# Altium schematic symbol library test.SchLib: 309 symbols (part 2 of 9)
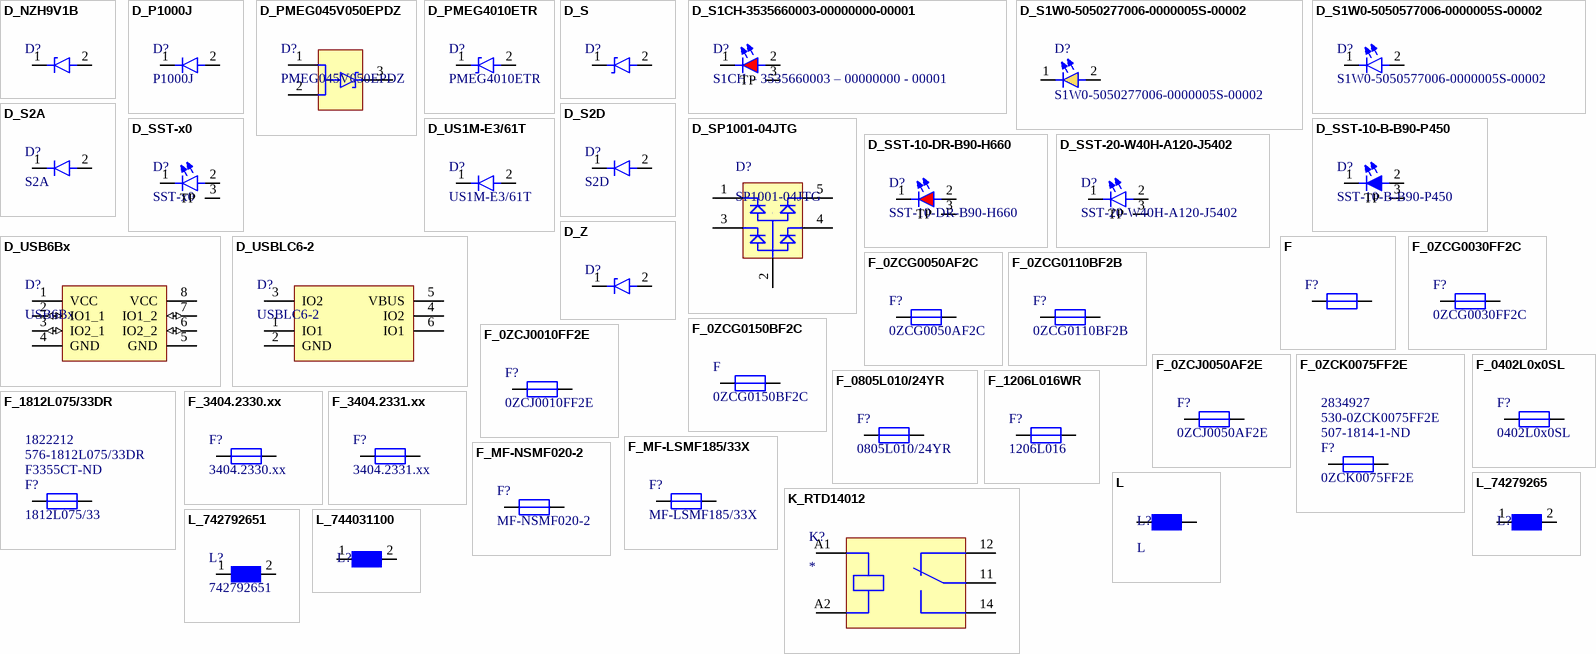
[diagram p9: symbols D_NZH9V1B to L_744031100]

## D_SP1001-04JTG
designator D?, comment SP1001-04JTG
TVS DIODE 5.5V 13V SC70-5; Manufacturer: Littelfuse; Direction: Unidirectional; Capacitance: 8pF; Max Surge Current: 2A; Number of Channels: 4; Min Breakdown Voltage: 7V; Power Line Protection: No; Leakage Current: 500nA; Supplier 1: Digi-Key; Supplier Part Number 1: F2895DKR-ND; Manufacturer Part Number: SP1001-04JTG; Stock 1: 12164; Pricing 1: 1 = 0.62000, 10 = 0.51900, 25 = 0.45440, 100 = 0.38930, 250 = 0.33744, 500 = 0.28552, 1000 = 0.22063 (USD); RoHS: Yes; Mount: Surface Mount; Case/Package: SC; Number of Pins: 5; Min Operating Temperature: -40°C; Max Operating Temperature: 85°C; Operating Supply Voltage: 5.5V; Packaging: Tape and Reel; Package Quantity: 3000; Polarity: Unidirectional; Breakdown Voltage: 5.5V; Clamping Voltage: 13V; Termination: SMD/SMT; Number of Unidirectional Channels: 4; Reverse Standoff Voltage: 5.5V; Working Voltage: 5.5V; Peak Pulse Current: 2A; Composition: Zener; Length: 2.25mm; Depth: 1.35mm; Radiation Hardening: No; REACH SVHC: Unknown; Lead Free: Lead Free; ComponentLink1URL: https://datasheet.ciiva.com/4510/littelfuse-spa-sp1001-0x-63620-4510770.pdf?src-supplier=Mouser; ComponentLink1Description: https://datasheet.ciiva.com/4510/littelfuse-spa-sp1001-0x-63620-4510770.pdf?src-supplier=Mouser; ComponentLink2URL: https://datasheet.ciiva.com/331/littelfuse-tvs-diode-array-sp1001-datasheet-pdf-331764.pdf?src-supplier=Digi-Key; ComponentLink2Description: https://datasheet.ciiva.com/331/littelfuse-tvs-diode-array-sp1001-datasheet-pdf-331764.pdf?src-supplier=Digi-Key; ComponentLink3URL: https://datasheet.ciiva.com/331/littelfuse-tvs-diode-array-sp1001-datasheet-pdf-331765.pdf?src-supplier=Digi-Key; ComponentLink3Description: https://datasheet.ciiva.com/331/littelfuse-tvs-diode-array-sp1001-datasheet-pdf-331765.pdf?src-supplier=Digi-Key; ComponentLink4URL: https://datasheet.ciiva.com/331/littelfuse-tvs-diode-array-sp1001-datasheet-pdf-331766.pdf?src-supplier=Digi-Key; ComponentLink4Description: https://datasheet.ciiva.com/331/littelfuse-tvs-diode-array-sp1001-datasheet-pdf-331766.pdf?src-supplier=Digi-Key; ComponentLink5URL: https://datasheet.ciiva.com/1268/littelfuse-spa-sp1001-0x-1268334.pdf?src-supplier=Element14; ComponentLink5Description: https://datasheet.ciiva.com/1268/littelfuse-spa-sp1001-0x-1268334.pdf?src-supplier=Element14
footprint SOT353-1
pins: 1, 2, 3, 4, 5

## D_SST-10-B-B90-P450
designator D?, comment SST-10-B-B90-P450
Led SST10 Blue 450NM SMD; Manufacturer: Luminus Devices; Forward Voltage: 3V; Test Current: 350mA; Max Current Rating: 1.5A; Test Temperature: 25°C; Viewing Angle: 90°; Thermal Resistance of Package: 5.3°C/W; Supplier 1: Digi-Key; Supplier Part Number 1: 1214-1433-1-ND; Manufacturer Part Number: SST-10-B-B90-P450; RoHS: Yes; Stock: 942; Pricing 1: 1=1.84000, 10=1.49500, 100=0.92000 (USD); Mount: Surface Mount; Case/Package: SMD/SMT; Color: Blue; Packaging: Tape and Reel; Wavelength: 450nm; ComponentLink1URL: http://www.luminus.com/products/Luminus_SST10-B_Datasheet.pdf?src-supplier=Digi-Key; ComponentLink1Description: http://www.luminus.com/products/Luminus_SST10-B_Datasheet.pdf?src-supplier=Digi-Key
footprint SST-x0-B (SST-x0 LED Blue)
footprint SST-x0 (SST-x0 LED general)
pins: 1, 2, 3 TP

## D_SST-10-DR-B90-H660
designator D?, comment SST-10-DR-B90-H660
High Power LED Deep Red 660nm 1500mA 3-Pin Surface Mount T/R; Manufacturer: Luminus Devices; Forward Voltage: 2.05V; Test Current: 350mA; Max Current Rating: 1.5A; Test Temperature: 25°C; Viewing Angle: 90°; Thermal Resistance of Package: 5.3°C/W; Supplier 1: Digi-Key; Supplier Part Number 1: 1214-1437-1-ND; Manufacturer Part Number: SST-10-DR-B90-H660; RoHS: Yes; Stock: 782; Pricing 1: 1=1.93000, 10=1.57000, 100=0.96600 (USD); Mount: Surface Mount; Case/Package: SMD/SMT; Color: Red; Packaging: Tape and Reel; Wavelength: 660nm; ComponentLink1URL: http://www.luminus.com/products/Luminus_SST10-DR_Datasheet.pdf?src-supplier=Digi-Key; ComponentLink1Description: http://www.luminus.com/products/Luminus_SST10-DR_Datasheet.pdf?src-supplier=Digi-Key
footprint SST-x0-DR (SST-x0 LED DarkRed)
footprint SST-x0 (SST-x0 LED general)
pins: 1, 2, 3 TP

## D_SST-20-W40H-A120-J5402
designator D?, comment SST-20-W40H-A120-J5402
High Power LEDs - White High CRI White LED 4000K 95 CRI; Manufacturer 1: Luminus Devices; Manufacturer Part Number 1: SST-20-W40H-A120-J5402; ComponentLink1URL: https://www.mouser.ch/datasheet/2/245/Luminus_SST-20-WxH_Datasheet-1499224.pdf; ComponentLink1Description: http://www.luminus.com/products/Luminus_SST10-DR_Datasheet.pdf?src-supplier=Digi-Key
footprint SST-x0 (SST-x0 LED general)
pins: 1, 2, 3 TP

## D_SST-x0
designator D?, comment SST-x0
High Power LEDs Luminus SST-x0 series
footprint SST-x0 (SST-x0 LED general)
pins: 1, 2, 3 TP

## D_US1M-E3/61T
designator D?, comment US1M-E3/61T
VISHAY - US1M-E3/61T - Dioda szybka / ultraszybka, 1 kV, 1 A, Pojedyncze, 1.7 V, 75 ns, 30 A; Manufacturer: Vishay Semiconductors; Forward Voltage: 1.7V; Forward Current: 1A; Max Reverse Current: 10uA; Reverse Recovery Time: 75ns; Max Repetitive Reverse Voltage (Vrrm): 1kV; Peak Non-Repetitive Surge Current: 30A; Element Configuration: Single; Polarity: Standard; Capacitance: 10pF; Manufacturer Part Number: US1M-E3/61T; RoHS: Yes; Category: Rectifier Diodes; Stock 1: 555533; Pricing 1: 1=0.46000, 50=0.22500, 100=0.19700, 250=0.16600, 500=0.14600 (USD); Mount: Surface Mount; Case/Package: SMA; Number of Pins: 2; Min Operating Temperature: -55°C; Max Operating Temperature: 150°C; Packaging: Tape and Reel; Max Surge Current: 30A; Package Quantity: 1; Recovery Time: 75ns; Average Rectified Current: 1A; Max Forward Surge Current (Ifsm): 30A; Voltage Rating (DC): 1kV; Current Rating: 1A; Output Current: 1A; Current: 1A; Voltage: 1kV; Max Reverse Voltage (DC): 1kV; Reverse Voltage: 1kV; Series: -; Termination: SMD/SMT; Reverse Recovery Time-Max: 75ns; Length: 4.5mm; Width: 4.5mm; Height: 2.09mm; Lead Free: Lead Free; REACH SVHC: Unknown; RoHS Compliant: Yes; ComponentLink1URL: https://datasheet.ciiva.com/26295/1825026-26295189.pdf?src-supplier=Element14; ComponentLink1Description: https://datasheet.ciiva.com/26295/1825026-26295189.pdf?src-supplier=Element14; ComponentLink2URL: https://datasheet.ciiva.com/46393/1849435-46393787.pdf?src-supplier=Element14; ComponentLink2Description: https://datasheet.ciiva.com/46393/1849435-46393787.pdf?src-supplier=Element14; ComponentLink3URL: https://datasheet.ciiva.com/46393/1849435-46393789.pdf?src-supplier=Element14; ComponentLink3Description: https://datasheet.ciiva.com/46393/1849435-46393789.pdf?src-supplier=Element14; Supplier 1: Farnell; Supplier 2: Mouser; Supplier 3: Digi-Key; Supplier Part Number 1: 9551840; Supplier Part Number 2: 625-US1M-E3; Supplier Part Number 3: US1M-E3/61TGICT-ND
footprint DO-214AC
footprint DO-214AC (SMA) US1 (DO-214AC)
pins: 1, 2

## D_USB6Bx
designator D?, comment USB6Bx
TVS DIODE 5.25VWM 8SOIC; Manufacturer: STMicroelectronics; Manufacturer Part Number: USB6B1RL; Case/Package: SOIC; ComponentLink1URL: https://datasheet.ciiva.com/26787/usb6b1rl-26787915.pdf; ComponentLink1Description: https://datasheet.ciiva.com/26787/usb6b1rl-26787915.pdf; ComponentLink2URL: https://datasheet.ciiva.com/26912/getdatasheetpartid-202409-26912476.pdf; ComponentLink2Description: https://datasheet.ciiva.com/26912/getdatasheetpartid-202409-26912476.pdf; ComponentLink3URL: https://datasheet.ciiva.com/4508/cd00001361-4508455.pdf; ComponentLink3Description: https://datasheet.ciiva.com/4508/cd00001361-4508455.pdf; Supplier 1: Digi-Key; Supplier Part Number 1: 497-3281-1-ND
footprint SO8 (SOIC, 8-Leads, Body 4.90x3.90mm, Pitch 1.27mm, IPC Medium Density)
pins: 1 VCC (power), 2 IO1_1 (io), 3 IO2_1 (io), 4 GND (power), 5 GND (power), 6 IO2_2 (io), 7 IO1_2 (io), 8 VCC (power)

## D_USBLC6-2
designator D?, comment USBLC6-2
ESD PROTECTION ARRAY, 17V, SOT-666-6; Diode Type:Low Capacitance, ESD Protection; Clamping Voltage Vc Max:17V; Operating Voltage:1.1V; Diode Case Style:SOT-666; No. of Pins:6; Packaging:Tape & Reel; MSL:-; SVHC:No SVHC ( ;RoHS Compliant: Yes; Manufacturer: STMicroelectronics; Manufacturer Part Number: USBLC6-2P6; Direction: Unidirectional,Bidirectional; Operating Supply Voltage: 5V; Number of Elements: 1; Capacitance: 3.5pF; Reverse Breakdown Voltage: 6V; Number of Channels: 2; Test Current: 1mA; Max Reverse Leakage Current: 150nA; Peak Pulse Current: 5A; Element Configuration: Dual; Supplier 1: Digi-Key; Supplier Part Number 1: 497-5026-1-ND; ComponentLink1URL: https://datasheet.ciiva.com/15143/getdatasheetpartid-98673-15143462.pdf; ComponentLink1Description: https://datasheet.ciiva.com/15143/getdatasheetpartid-98673-15143462.pdf; ComponentLink2URL: https://datasheet.ciiva.com/14186/usblc6-2-st-eng-tds-14186568.pdf; ComponentLink2Description: https://datasheet.ciiva.com/14186/usblc6-2-st-eng-tds-14186568.pdf; ComponentLink3URL: https://datasheet.ciiva.com/22692/1690354-22692453.pdf; ComponentLink3Description: https://datasheet.ciiva.com/22692/1690354-22692453.pdf; ComponentLink4URL: https://datasheet.ciiva.com/22685/1690354-22685832.pdf; ComponentLink4Description: https://datasheet.ciiva.com/22685/1690354-22685832.pdf; ComponentLink5URL: https://datasheet.ciiva.com/16378/cd00050750-16378714.pdf; ComponentLink5Description: https://datasheet.ciiva.com/16378/cd00050750-16378714.pdf; ComponentLink6URL: https://datasheet.ciiva.com/4508/cd00050750-4508892.pdf; ComponentLink6Description: https://datasheet.ciiva.com/4508/cd00050750-4508892.pdf; ComponentLink7URL: https://datasheet.ciiva.com/41444/001184108-da-01-en-ic-esd-protection-usblc6-2p6-sot-666-stm-41444134.pdf; ComponentLink7Description: https://datasheet.ciiva.com/41444/001184108-da-01-en-ic-esd-protection-usblc6-2p6-sot-666-stm-41444134.pdf; Case/Package: SOT-666; Supplier 2: Mouser; RoHS: Yes; Category: TVS Diodes; Stock 2: 573; Pricing 2: 1=0.68000, 10=0.59500, 50=0.59500, 100=0.45600, 1000=0.28900, 10000=0.23800 (USD); Mount: Surface Mount; Number of Pins: 6; Contact Plating: Tin,Matte; Min Operating Temperature: -40°C; Max Operating Temperature: 125°C; Package Quantity: 1; Packaging: Tape and Reel; Number of Bidirectional Channels: 2; Reverse Standoff Voltage: 5V; Min Breakdown Voltage: 6V; Clamping Voltage: 17V; Power Line Protection: Yes; Polarity: Unidirectional,Bidirectional; Breakdown Voltage: 6V; Termination: SMD/SMT; Working Voltage: 5V; ESD Protection: Yes; Leakage Current: 150nA; Max Breakdown Voltage: 6V; Series: USB; Clamping Voltage-Max: 17V; Length: 1.7mm; Width: 1.3mm; Height: 0.6mm; Depth: 1.3mm; Radiation Hardening: No; REACH SVHC: No SVHC; Lead Free: Lead Free; RoHS Compliant: Yes; ComponentLink8URL: https://datasheet.ciiva.com/15143/getdatasheetpartid-98673-15143462.pdf?src-supplier=Verical; ComponentLink8Description: https://datasheet.ciiva.com/15143/getdatasheetpartid-98673-15143462.pdf?src-supplier=Verical; ComponentLink9URL: https://datasheet.ciiva.com/14186/usblc6-2-st-eng-tds-14186568.pdf?src-supplier=Distrelec; ComponentLink9Description: https://datasheet.ciiva.com/14186/usblc6-2-st-eng-tds-14186568.pdf?src-supplier=Distrelec; ComponentLink10URL: https://datasheet.ciiva.com/4508/cd00050750-4508892.pdf?src-supplier=Mouser; ComponentLink10Description: https://datasheet.ciiva.com/4508/cd00050750-4508892.pdf?src-supplier=Mouser; ComponentLink11URL: https://datasheet.ciiva.com/22692/1690354-22692453.pdf?src-supplier=Element14; ComponentLink11Description: https://datasheet.ciiva.com/22692/1690354-22692453.pdf?src-supplier=Element14; ComponentLink12URL: https://datasheet.ciiva.com/22685/1690354-22685832.pdf?src-supplier=Element14; ComponentLink12Description: https://datasheet.ciiva.com/22685/1690354-22685832.pdf?src-supplier=Element14; ComponentLink13URL: https://datasheet.ciiva.com/16378/cd00050750-16378714.pdf?src-supplier=Future+Electronics; ComponentLink13Description: https://datasheet.ciiva.com/16378/cd00050750-16378714.pdf?src-supplier=Future+Electronics; ComponentLink14URL: https://datasheet.ciiva.com/41444/001184108-da-01-en-ic-esd-protection-usblc6-2p6-sot-666-stm-41444134.pdf?src-supplier=Conrad; ComponentLink14Description: https://datasheet.ciiva.com/41444/001184108-da-01-en-ic-esd-protection-usblc6-2p6-sot-666-stm-41444134.pdf?src-supplier=Conrad; Supplier 3: Farnell; Pricing 3: 5=0.46800, 50=0.38300, 100=0.29600, 500=0.19700, 1500=0.19400 (GBP); Supplier Part Number 2: 511-USBLC6-2P6; Supplier Part Number 3: 1295310
footprint SOT-666 (SOTFL, 6-Leads, Body 1.60x1.60mm, Pitch 0.50mm, IPC Medium Density)
pins: 1 IO1, 2 GND, 3 IO2, 4 IO2, 5 VBUS, 6 IO1

## D_Z
designator D?, comment Zehner Diode  (value not drawn)
Zehner Diode, generic
footprint 0402_D
footprint 0603_D
footprint 0805_D
footprint DO-214AC
footprint SOD123 (SODFL, 2-Leads, Body 1.70x3.50mm, IPC Medium Density)
footprint 10.16mm_tht_D
pins: 1, 2

## F
designator F?
Fuse generic
footprint 0402_PTC
footprint 1206_PTC
footprint 1812_PTC
footprint MF-LSMF185/33X
pins: 1, 2

## F_0ZCG0030FF2C
designator F?, comment 0ZCG0030FF2C
PTC Resettable Fuse 0.3A(hold) 0.6A(trip) 30VDC 40A 0.8W 0.1s 0.2Ohm SMD Solder Pad 1812 T/R; Manufacturer: Bel; Hold Current: 300mA; Trip Current: 600mA; Supplier 1: Digi-Key; Manufacturer Part Number: 0ZCG0030FF2C; RoHS: Yes; Category: PTC Resettable Fuses; Stock 1: 59615; Pricing 1: 1=0.12000, 5=0.11200, 10=0.10700, 50=0.09560, 100=0.08910, 250=0.07920, 500=0.06600, 1000=0.06270 (USD); Case/Package: 1812; Case Code (Metric): 4532; Case Code (Imperial): 1812; Package Quantity: 1; Packaging: Cut Tape; Max Current Rating: 40A; Time to Trip: 0.1s; Lead Free: Lead Free; RoHS Compliant: Yes; ComponentLink1URL: https://datasheet.ciiva.com/18550/0zcg-18550783.pdf?src-supplier=Digi-Key; ComponentLink1Description: https://datasheet.ciiva.com/18550/0zcg-18550783.pdf?src-supplier=Digi-Key; Supplier 2: Farnell; Stock 2: 390; Pricing 2: 1=0.09850, 10=0.08910, 25=0.08060, 50=0.07220, 100=0.06330, 250=0.06240, 500=0.05260, 1000=0.04640 (GBP); Supplier 3: Mouser; Stock 3: 15244; Pricing 3: 1=0.11000, 10=0.10000, 50=0.10000, 100=0.07100, 1000=0.05200, 10000=0.04200 (USD); Supplier Part Number 1: 507-1758-1-ND; Supplier Part Number 2: 2848504; Supplier Part Number 3: 530-0ZCG0030FF2C
footprint 1812_PTC
pins: 1, 2

## F_0ZCG0050AF2C
designator F?, comment 0ZCG0050AF2C
BEL FUSE - CIRCUIT PROTECTION - 0ZCG0050AF2C - Rückstellbare PPTC-Sicherung, Oberflächenmontage, 0ZCG Series, 500 mA, 1 A, 30 VDC, -40 °C; Max Current Rating: 100A; Hold Current: 500mA; Trip Current: 1A; Time to Trip: 0.15s; Manufacturer: Bel; Manufacturer Part Number: 0ZCG0050AF2C; RoHS: Yes; Category: PTC Resettable Fuses; Pricing 1: 1=0.12000, 5=0.11200, 10=0.10700, 50=0.09560, 100=0.08910, 250=0.07920, 500=0.06600, 1000=0.06270 (USD); Mount: Surface Mount; Case/Package: 1812; Case Code (Metric): 4532; Case Code (Imperial): 1812; Contact Plating: Tin,Matte; Min Operating Temperature: -40°C; Max Operating Temperature: 85°C; Package Quantity: 1; Packaging: Tape and Reel; Lead Free: Lead Free; RoHS Compliant: Yes; ComponentLink1URL: https://datasheet.ciiva.com/18550/0zcg-18550748.pdf?src-supplier=Digi-Key; ComponentLink1Description: https://datasheet.ciiva.com/18550/0zcg-18550748.pdf?src-supplier=Digi-Key; ComponentLink2URL: https://datasheet.ciiva.com/18550/0zcg-18550749.pdf?src-supplier=Digi-Key; ComponentLink2Description: https://datasheet.ciiva.com/18550/0zcg-18550749.pdf?src-supplier=Digi-Key; ComponentLink3URL: https://datasheet.ciiva.com/18550/0zcg-18550750.pdf?src-supplier=Digi-Key; ComponentLink3Description: https://datasheet.ciiva.com/18550/0zcg-18550750.pdf?src-supplier=Digi-Key; Supplier 1: Digi-Key; Supplier 2: Mouser; Pricing 2: 1=0.11000, 10=0.11000, 50=0.07500, 100=0.06600, 1000=0.05300, 10000=0.04500 (USD); Supplier 3: Farnell; Pricing 3: 1=0.11800, 2=0.11000, 3=0.10100, 5=0.09290, 10=0.07780, 20=0.06260, 50=0.06130 (GBP)
footprint 1812_PTC
pins: 1, 2

## F_0ZCG0110BF2B
designator F?, comment 0ZCG0110BF2B
BEL FUSE - 0ZCG0110BF2B - FUSE, RESETTABLE PTC, 24VDC, 1.1A, SMD; Max Current Rating: 100A; Trip Current: 2.2A; Time to Trip: 0.5s; Manufacturer: Bel; Manufacturer Part Number: 0ZCG0110BF2B; RoHS: Yes; Category: PTC Resettable Fuses; Stock 1: 72778; Pricing 1: 1=0.22000, 5=0.21800, 10=0.20800, 50=0.18560, 100=0.17280, 250=0.15360, 500=0.12800 (USD); Mount: Surface Mount; Case/Package: 1812; Case Code (Metric): 4532; Case Code (Imperial): 1812; Contact Plating: Tin,Matte; Min Operating Temperature: -40°C; Max Operating Temperature: 85°C; Package Quantity: 1; Packaging: Tape and Reel; Hold Current: 1.1A; Lead Free: Lead Free; RoHS Compliant: Yes; ComponentLink1URL: https://datasheet.ciiva.com/18550/0zcg-18550665.pdf?src-supplier=Digi-Key; ComponentLink1Description: https://datasheet.ciiva.com/18550/0zcg-18550665.pdf?src-supplier=Digi-Key; ComponentLink2URL: https://datasheet.ciiva.com/18550/0zcg-18550666.pdf?src-supplier=Digi-Key; ComponentLink2Description: https://datasheet.ciiva.com/18550/0zcg-18550666.pdf?src-supplier=Digi-Key; ComponentLink3URL: https://datasheet.ciiva.com/18550/0zcg-18550667.pdf?src-supplier=Digi-Key; ComponentLink3Description: https://datasheet.ciiva.com/18550/0zcg-18550667.pdf?src-supplier=Digi-Key; Stock 2: 30779; Pricing 2: 1=0.17000, 10=0.17000, 50=0.11900, 100=0.10500, 1000=0.08300, 10000=0.07100 (USD); Stock 3: 2946; Pricing 3: 1=0.18300, 2=0.17900, 3=0.17600, 5=0.17200, 10=0.16800, 20=0.09830, 50=0.09630 (GBP); Supplier 1: Digi-Key; Supplier 2: Mouser; Supplier 3: Farnell; Supplier Part Number 1: 507-1768-1-ND; Supplier Part Number 2: 530-0ZCG0110BF2B; Supplier Part Number 3: 2834910
footprint 1812_PTC
pins: 1, 2

## F_0ZCG0150BF2C
designator F, comment 0ZCG0150BF2C
BEL FUSE - 0ZCG0150BF2C - FUSE, RESETTABLE PTC, 24VDC, 1.5A, SMD; Number of Terminals/Pins: 2; Max Current Rating: 100A; Max Voltage Rating (DC): 24V; Power Dissipation: 1W; Trip Current: 3A; Time to Trip: 1.5s; Approvals: UL,TUV; Supplier 1: Digi-Key; Manufacturer: Bel; Manufacturer Part Number: 0ZCG0150BF2C; RoHS: Yes; Category: PTC Resettable Fuses; Stock 1: 235819; Pricing 1: 1=0.15000, 5=0.14200, 10=0.13600, 50=0.12180, 100=0.11340, 250=0.10080, 500=0.08400, 1000=0.07980 (USD); Mount: Surface Mount; Case/Package: 1812; Case Code (Metric): 4532; Case Code (Imperial): 1812; Contact Plating: Tin,Matte; Min Operating Temperature: -40°C; Max Operating Temperature: 85°C; Package Quantity: 1; Packaging: Tape and Reel; Hold Current: 1.5A; Lead Free: Lead Free; RoHS Compliant: Yes; ComponentLink1URL: http://www.farnell.com/datasheets/2571640.pdf?src-supplier=Farnell; ComponentLink1Description: http://www.farnell.com/datasheets/2571640.pdf?src-supplier=Farnell; ComponentLink2URL: https://www.belfuse.com/resources/CircuitProtection/datasheets/0ZCG%20Nov2016.pdf?src-supplier=Digi-Key; ComponentLink2Description: https://www.belfuse.com/resources/CircuitProtection/datasheets/0ZCG%20Nov2016.pdf?src-supplier=Digi-Key; ComponentLink3URL: http://www.belfuse.com/pdfs/0ZCG.pdf?src-supplier=Avnet+Asia; ComponentLink3Description: http://www.belfuse.com/pdfs/0ZCG.pdf?src-supplier=Avnet+Asia; ComponentLink4URL: http://www.belfuse.com/pdfs/0ZCG.pdf?src-supplier=Avnet; ComponentLink4Description: http://www.belfuse.com/pdfs/0ZCG.pdf?src-supplier=Avnet; ComponentLink5URL: http://www.farnell.com/datasheets/2571640.pdf?src-supplier=Newark; ComponentLink5Description: http://www.farnell.com/datasheets/2571640.pdf?src-supplier=Newark; Supplier 2: Farnell; Stock 2: 5; Pricing 2: 1=0.13400, 10=0.11200, 25=0.09070, 50=0.08530, 100=0.08060, 250=0.07580, 500=0.07130, 1000=0.06330 (GBP); Supplier 3: Farnell; Pricing 3: 150=0.07930 (GBP); Supplier Part Number 1: 507-1773-1-ND; Supplier Part Number 2: 2848512; Supplier Part Number 3: 2834912RL
footprint 1812_PTC
pins: 1, 2

## F_0ZCJ0010FF2E
designator F?, comment 0ZCJ0010FF2E
PTC RESTTBLE 0.10A 60V CHIP 1206; Manufacturer: Bel; Manufacturer Part Number: 0ZCJ0010FF2E; Case/Package: 1206; ComponentLink1URL: https://datasheet.ciiva.com/18550/0zcj-18550598.pdf; ComponentLink1Description: https://datasheet.ciiva.com/18550/0zcj-18550598.pdf; ComponentLink2URL: https://datasheet.ciiva.com/18550/0zcj-18550599.pdf; ComponentLink2Description: https://datasheet.ciiva.com/18550/0zcj-18550599.pdf; ComponentLink3URL: https://datasheet.ciiva.com/18550/0zcj-18550600.pdf; ComponentLink3Description: https://datasheet.ciiva.com/18550/0zcj-18550600.pdf; Supplier 1: Digi-Key; Supplier 2: Mouser; Supplier 3: Farnell; Supplier Part Number 1: 507-1794-1-ND; Supplier Part Number 2: 530-0ZCJ0010FF2E; Supplier Part Number 3: 2848521
footprint 1206_PTC
pins: 1, 2

## F_0ZCJ0050AF2E
designator F?, comment 0ZCJ0050AF2E
Resettable Fuses - PPTC Fuse; Manufacturer: Bel; Number of Terminals/Pins: 2; Hold Current: 500mA; Max Voltage Rating (DC): 24V; Power Dissipation: 600mW; Trip Current: 1A; Time to Trip: 0.1s; Max Current Rating: 100A; Approvals: UL,TUV; Supplier 1: Digi-Key; Manufacturer Part Number: 0ZCJ0050AF2E; RoHS: Yes; Category: PTC Resettable Fuses; Stock 1: 20134; Pricing 1: 1=0.17000, 5=0.16600, 10=0.15900, 50=0.14220, 100=0.13230, 250=0.11760, 500=0.09800, 1000=0.09310 (USD); Mount: Surface Mount; Case/Package: 1206; Case Code (Metric): 3216; Contact Plating: Tin,Matte; Case Code (Imperial): 1206; Min Operating Temperature: -40°C; Max Operating Temperature: 85°C; Package Quantity: 1; Packaging: Tape and Reel; Lead Free: Lead Free; ComponentLink1URL: https://datasheet.ciiva.com/18550/0zcj-18550710.pdf?src-supplier=Digi-Key; ComponentLink1Description: https://datasheet.ciiva.com/18550/0zcj-18550710.pdf?src-supplier=Digi-Key; ComponentLink2URL: https://datasheet.ciiva.com/18550/0zcj-18550712.pdf?src-supplier=Digi-Key; ComponentLink2Description: https://datasheet.ciiva.com/18550/0zcj-18550712.pdf?src-supplier=Digi-Key; ComponentLink3URL: https://datasheet.ciiva.com/18550/0zcj-18550711.pdf?src-supplier=Digi-Key; ComponentLink3Description: https://datasheet.ciiva.com/18550/0zcj-18550711.pdf?src-supplier=Digi-Key; Supplier Part Number 1: 507-1803-1-ND
footprint 1206_PTC
pins: 1, 2

## F_0ZCK0075FF2E
designator F?, comment 0ZCK0075FF2E  Supplier Part Number 1: 507-1814-1-ND  Supplier Part Number 2: 530-0ZCK0075FF2E  Supplier Part Number 3: 2834927
BEL FUSE - 0ZCJ0010FF2E - FUSE, RESETTABLE PTC, 60VDC, 0.1A, SMD; Max Current Rating: 40A; Hold Current: 750mA; Trip Current: 1.5A; Time to Trip: 0.2s; Number of Terminals/Pins: 2; Max Voltage Rating (DC): 60V; Power Dissipation: 400mW; Approvals: UL,TUV; Manufacturer: Bel; Manufacturer Part Number: 0ZCK0075FF2E; RoHS: Yes; Category: PTC Resettable Fuses; Stock 1: 8085; Pricing 1: 1=0.18000, 5=0.17400, 10=0.16600, 50=0.14800, 100=0.13770, 250=0.12240, 500=0.10200, 1000=0.09690 (USD); Case/Package: 0805; Case Code (Metric): 2012; Case Code (Imperial): 0805; Package Quantity: 1; Packaging: Tape and Reel; Lead Free: Lead Free; RoHS Compliant: Yes; ComponentLink1URL: https://datasheet.ciiva.com/18550/0zck-18550716.pdf?src-supplier=Digi-Key; ComponentLink1Description: https://datasheet.ciiva.com/18550/0zck-18550716.pdf?src-supplier=Digi-Key; ComponentLink2URL: https://datasheet.ciiva.com/18550/0zck-18550717.pdf?src-supplier=Digi-Key; ComponentLink2Description: https://datasheet.ciiva.com/18550/0zck-18550717.pdf?src-supplier=Digi-Key; Stock 2: 8281; Pricing 2: 1=0.17000, 10=0.17000, 50=0.12300, 100=0.10900, 1000=0.08600, 10000=0.07300 (USD); Stock 3: 3211; Pricing 3: 1=0.17800, 2=0.17700, 3=0.17600, 5=0.17500, 10=0.17400, 20=0.12500, 50=0.12300 (GBP); Pricing 4: 1=0.10000, 10=0.10000, 50=0.07300, 100=0.06400, 1000=0.05100, 10000=0.04300 (USD); Mount: Surface Mount; Contact Plating: Tin,Matte; Min Operating Temperature: -40°C; Max Operating Temperature: 85°C; ComponentLink3URL: https://datasheet.ciiva.com/18550/0zcj-18550598.pdf?src-supplier=Digi-Key; ComponentLink3Description: https://datasheet.ciiva.com/18550/0zcj-18550598.pdf?src-supplier=Digi-Key; ComponentLink4URL: https://datasheet.ciiva.com/18550/0zcj-18550599.pdf?src-supplier=Digi-Key; ComponentLink4Description: https://datasheet.ciiva.com/18550/0zcj-18550599.pdf?src-supplier=Digi-Key; ComponentLink5URL: https://datasheet.ciiva.com/18550/0zcj-18550600.pdf?src-supplier=Digi-Key; ComponentLink5Description: https://datasheet.ciiva.com/18550/0zcj-18550600.pdf?src-supplier=Digi-Key; Pricing 5: 1=0.08910, 25=0.06510, 50=0.06160, 100=0.05710, 250=0.05440, 500=0.05090, 1000=0.04550 (GBP); Supplier 1: Digi-Key; Supplier 2: Mouser; Supplier 3: Farnell
footprint 0805_PTC
pins: 1, 2

## F_0402L0x0SL
designator F?, comment 0402L0x0SL
FUSE, RESETTABLE PTC, 6VDC, 100mA, SMD; Product Range:POLYFUSE LoRho Series; Holding Current:100mA; Tripping Current:300mA; Voltage Rating:6VDC; Thermistor Mounting:SMD; Operating Temperature Min:-40 C; Operating Temperature Max:85 C;RoHS Compliant: Yes; Manufacturer: Littelfuse; Manufacturer Part Number: 0402L010SLKR; Max Current Rating: 40A; Resistance: 2R; Max Voltage Rating (DC): 6V; Power Dissipation: 500mW; Trip Current: 300mA; Time to Trip: 1s; Approvals: UL; Supplier 1: Digi-Key; Case/Package: 0402; ComponentLink1URL: https://datasheet.ciiva.com/7443/littelfuse-ptc-lorho-datasheet-pdf-7443453.pdf; ComponentLink1Description: https://datasheet.ciiva.com/7443/littelfuse-ptc-lorho-datasheet-pdf-7443453.pdf; ComponentLink2URL: https://datasheet.ciiva.com/15201/getdatasheetpartid-712926-15201162.pdf; ComponentLink2Description: https://datasheet.ciiva.com/15201/getdatasheetpartid-712926-15201162.pdf; ComponentLink3URL: https://datasheet.ciiva.com/7443/littelfuse-ptc-lorho-datasheet-pdf-7443463.pdf; ComponentLink3Description: https://datasheet.ciiva.com/7443/littelfuse-ptc-lorho-datasheet-pdf-7443463.pdf; Supplier Part Number 1: F5756CT-ND; Supplier 2: Farnell; RoHS: Yes; Category: PTC Resettable Fuses; Stock 2: 4225; Pricing 2: 10=1.40000, 100=1.37000, 500=1.33000, 2500=1.30000, 5000=1.26000, 10000=1.23000, 50000=1.20000 (GBP); Case Code (Metric): 1005; Case Code (Imperial): 0402; Min Operating Temperature: -40°C; Max Operating Temperature: 85°C; Package Quantity: 10000; Packaging: Tape and Reel; Termination: SMD/SMT; Hold Current: 100mA; Voltage Rating (DC): 6V; Operating Supply Voltage: 6V; Series: POLY-FUSE®, LoRho™; Lead Free: Lead Free; RoHS Compliant: Yes; ComponentLink4URL: https://datasheet.ciiva.com/15201/getdatasheetpartid-712926-15201162.pdf?src-supplier=Verical; ComponentLink4Description: https://datasheet.ciiva.com/15201/getdatasheetpartid-712926-15201162.pdf?src-supplier=Verical; ComponentLink5URL: https://datasheet.ciiva.com/7443/littelfuse-ptc-lorho-datasheet-pdf-7443463.pdf?src-supplier=Digi-Key; ComponentLink5Description: https://datasheet.ciiva.com/7443/littelfuse-ptc-lorho-datasheet-pdf-7443463.pdf?src-supplier=Digi-Key; ComponentLink6URL: https://datasheet.ciiva.com/7443/littelfuse-ptc-lorho-datasheet-pdf-7443453.pdf?src-supplier=Digi-Key; ComponentLink6Description: https://datasheet.ciiva.com/7443/littelfuse-ptc-lorho-datasheet-pdf-7443453.pdf?src-supplier=Digi-Key; Supplier 3: Mouser; Stock 3: 14178; Pricing 3: 1=2.64000, 10=2.51000, 50=2.03000, 100=1.72000, 1000=1.26000, 10000=1.10000 (USD); Supplier Part Number 2: 2786555; Supplier Part Number 3: 576-0402L010SLKR
footprint 04020x0SL (04020x0SL, Resettable PTC)
pins: 1, 2

## F_0805L010/24YR
designator F?, comment 0805L010/24YR
PTC RESET FUSE 24V 100MA 0805; Manufacturer: Littelfuse; Max Current Rating: 100A; Trip Current: 300mA; Time to Trip: 1.5s; Supplier 1: Farnell; Manufacturer Part Number: 0805L010/24YR; RoHS: Yes; Category: PTC Resettable Fuses; Case/Package: 0805; Case Code (Metric): 2012; Case Code (Imperial): 0805; Package Quantity: 4000; Packaging: Tape and Reel; Hold Current: 100mA; Lead Free: Lead Free; RoHS Compliant: Yes; ComponentLink1URL: https://datasheet.ciiva.com/29603/littelfuse-ptc-0805l-datasheet-pdf-29603281.pdf?src-supplier=Digi-Key; ComponentLink1Description: https://datasheet.ciiva.com/29603/littelfuse-ptc-0805l-datasheet-pdf-29603281.pdf?src-supplier=Digi-Key; Supplier 2: Mouser; Stock 2: 7311; Pricing 2: 1=0.97000, 10=0.93900, 50=0.93900, 100=0.93900, 1000=0.93900, 10000=0.93900 (USD); Supplier 3: Farnell; Pricing 3: 10=1.56000, 100=1.14000, 500=1.07000, 1000=0.96500, 2000=0.94600, 4000=0.92600, 20000=0.90700 (GBP); Supplier Part Number 1: 3515995RL; Supplier Part Number 2: 576-0805L010/24YR; Supplier Part Number 3: 3515995
footprint 0805_PTC
pins: 1, 2

## F_1206L016WR
designator F?, comment 1206L016
0.16A Surface Mount Resettable Fuse,  30V dc; Manufacturer: Littelfuse; Manufacturer Part Number: 1206L016WR; Max Current Rating: 100A; Resistance: 4.5R; Power Dissipation: 600mW; Hold Current: 160mA; Trip Current: 370mA; Time to Trip: 0.3s; Approvals: cULus,TUV; Supplier 1: Digi-Key; Supplier Part Number 1: F3132CT-ND; Case/Package: 1206; ComponentLink1URL: https://datasheet.ciiva.com/16321/littelfuse-1206l-16321409.pdf; ComponentLink1Description: https://datasheet.ciiva.com/16321/littelfuse-1206l-16321409.pdf; ComponentLink2URL: https://datasheet.ciiva.com/30470/0900766b8128f4fb-30470039.pdf; ComponentLink2Description: https://datasheet.ciiva.com/30470/0900766b8128f4fb-30470039.pdf; ComponentLink3URL: https://datasheet.ciiva.com/14102/1206l-eng-datasheet-14102816.pdf; ComponentLink3Description: https://datasheet.ciiva.com/14102/1206l-eng-datasheet-14102816.pdf; ComponentLink4URL: https://datasheet.ciiva.com/1273/578280-1273584.pdf; ComponentLink4Description: https://datasheet.ciiva.com/1273/578280-1273584.pdf; ComponentLink5URL: https://datasheet.ciiva.com/325/littelfuse-ptc-1206l-325749.pdf; ComponentLink5Description: https://datasheet.ciiva.com/325/littelfuse-ptc-1206l-325749.pdf; ComponentLink6URL: https://datasheet.ciiva.com/1273/littelfuse-ptc-1206l-1273585.pdf; ComponentLink6Description: https://datasheet.ciiva.com/1273/littelfuse-ptc-1206l-1273585.pdf; ComponentLink7URL: https://datasheet.ciiva.com/325/littelfuse-ptc-1206l-325747.pdf; ComponentLink7Description: https://datasheet.ciiva.com/325/littelfuse-ptc-1206l-325747.pdf; ComponentLink8URL: https://datasheet.ciiva.com/325/littelfuse-ptc-1206l-325748.pdf; ComponentLink8Description: https://datasheet.ciiva.com/325/littelfuse-ptc-1206l-325748.pdf; Supplier 2: Mouser; RoHS: Yes; Category: Thermistors; Stock 2: 10458; Pricing 2: 1=0.47000, 10=0.38500, 50=0.38500, 100=0.29000, 1000=0.21800, 10000=0.20800 (USD); Case Code (Metric): 3216; Case Code (Imperial): 1206; Terminal Material: Copper; Min Operating Temperature: -40°C; Max Operating Temperature: 85°C; Operating Supply Voltage: 30V; Package Quantity: 3000; Packaging: Tape and Reel; Voltage Rating: 30V; Current Rating: 100A; Termination: SMD/SMT; Voltage Rating (DC): 30V; Working Voltage: 30V; Max Voltage Rating (DC): 30V; Max Power Dissipation: 600mW; Series: 1206L; Length: 3.4mm; Width: 1.8mm; Height: 1.45mm; REACH SVHC: No SVHC; Lead Free: Lead Free; RoHS Compliant: Yes; ComponentLink9URL: https://datasheet.ciiva.com/1273/578280-1273584.pdf?src-supplier=Element14; ComponentLink9Description: https://datasheet.ciiva.com/1273/578280-1273584.pdf?src-supplier=Element14; ComponentLink10URL: https://datasheet.ciiva.com/14102/1206l-eng-datasheet-14102816.pdf?src-supplier=Distrelec; ComponentLink10Description: https://datasheet.ciiva.com/14102/1206l-eng-datasheet-14102816.pdf?src-supplier=Distrelec; ComponentLink11URL: https://datasheet.ciiva.com/16321/littelfuse-1206l-16321409.pdf?src-supplier=Future+Electronics; ComponentLink11Description: https://datasheet.ciiva.com/16321/littelfuse-1206l-16321409.pdf?src-supplier=Future+Electronics; ComponentLink12URL: https://datasheet.ciiva.com/30470/0900766b8128f4fb-30470039.pdf?src-supplier=RSComponents; ComponentLink12Description: https://datasheet.ciiva.com/30470/0900766b8128f4fb-30470039.pdf?src-supplier=RSComponents; ComponentLink13URL: https://datasheet.ciiva.com/1273/littelfuse-ptc-1206l-1273585.pdf?src-supplier=Element14; ComponentLink13Description: https://datasheet.ciiva.com/1273/littelfuse-ptc-1206l-1273585.pdf?src-supplier=Element14; ComponentLink14URL: https://datasheet.ciiva.com/325/littelfuse-ptc-1206l-325747.pdf?src-supplier=Digi-Key; ComponentLink14Description: https://datasheet.ciiva.com/325/littelfuse-ptc-1206l-325747.pdf?src-supplier=Digi-Key; ComponentLink15URL: https://datasheet.ciiva.com/325/littelfuse-ptc-1206l-325748.pdf?src-supplier=Digi-Key; ComponentLink15Description: https://datasheet.ciiva.com/325/littelfuse-ptc-1206l-325748.pdf?src-supplier=Digi-Key; ComponentLink16URL: https://datasheet.ciiva.com/325/littelfuse-ptc-1206l-325749.pdf?src-supplier=Digi-Key; ComponentLink16Description: https://datasheet.ciiva.com/325/littelfuse-ptc-1206l-325749.pdf?src-supplier=Digi-Key; Supplier 3: Farnell; Stock 3: 6; Pricing 3: 5=0.46200, 50=0.23100, 250=0.21300, 500=0.21000, 1500=0.20600, 3000=0.20300, 15000=0.19800 (GBP); Supplier Part Number 2: 576-1206L016WR; Supplier Part Number 3: 1822201
footprint 1206_PTC
pins: 1, 2

## F_1812L075/33DR
designator F?, comment 1812L075/33  Supplier Part Number 1: F3355CT-ND  Supplier Part Number 2: 576-1812L075/33DR  Supplier Part Number 3: 1822212
PTC RESETTABLE 33V 750MA 1812L; Manufacturer: Littelfuse; Manufacturer Part Number: 1812L075/33DR; Case/Package: 1812; ComponentLink1URL: https://datasheet.ciiva.com/30470/0900766b8128f4f7-30470050.pdf; ComponentLink1Description: https://datasheet.ciiva.com/30470/0900766b8128f4f7-30470050.pdf; ComponentLink2URL: https://datasheet.ciiva.com/1273/578288-1273739.pdf; ComponentLink2Description: https://datasheet.ciiva.com/1273/578288-1273739.pdf; ComponentLink3URL: https://datasheet.ciiva.com/1273/littelfuse-ptc-1812l-1273740.pdf; ComponentLink3Description: https://datasheet.ciiva.com/1273/littelfuse-ptc-1812l-1273740.pdf; ComponentLink4URL: https://datasheet.ciiva.com/325/littelfuse-ptc-1812l-325928.pdf; ComponentLink4Description: https://datasheet.ciiva.com/325/littelfuse-ptc-1812l-325928.pdf; ComponentLink5URL: https://datasheet.ciiva.com/325/littelfuse-ptc-1812l-325926.pdf; ComponentLink5Description: https://datasheet.ciiva.com/325/littelfuse-ptc-1812l-325926.pdf; ComponentLink6URL: https://datasheet.ciiva.com/325/littelfuse-ptc-1812l-325927.pdf; ComponentLink6Description: https://datasheet.ciiva.com/325/littelfuse-ptc-1812l-325927.pdf; Supplier 1: Digi-Key; Supplier 2: Mouser; Supplier 3: Farnell
footprint 1812_PTC
pins: 1, 2

## F_3404.2330.xx
designator F?, comment 3404.2330.xx
Fuse Chip Slow Blow Acting 4A 125V SMD Solder Pad 12 X 5.2mm Thermoplastic Plastic Bag; Manufacturer: Schurter; Manufacturer Part Number: 3404.2330.11; Fuse Type: Board Mount (Cartridge Style Excluded); Approvals: CCC; RoHS: Yes; Category: Fuses; Stock 1: 4; Pricing 1: 1=1.99000, 50=1.66900, 100=1.27700, 500=1.25200, 1000=1.13183 (USD); Mount: Surface Mount,Holder; Case/Package: SMD/SMT; Number of Pins: 2; Weight: 0.016579oz; Contact Plating: Tin; Min Operating Temperature: -40°C; Max Operating Temperature: 85°C; Current Rating: 4A; Voltage Rating (AC): 125V; Voltage Rating (DC): 125V; Packaging: Bulk; Package Quantity: 100; Max Voltage Rating (AC): 125V; Max Voltage Rating (DC): 125V; Voltage Rating: 125V; Series: OMZ 125; Fuse Size: 12 X 5.2mm; Length: 0.472inch; Width: 5.2mm; Height: 6mm; RoHS Compliant: Yes; ComponentLink1URL: https://datasheet.ciiva.com/311/typ-omz-125-311244.pdf?src-supplier=Digi-Key; ComponentLink1Description: https://datasheet.ciiva.com/311/typ-omz-125-311244.pdf?src-supplier=Digi-Key; ComponentLink2URL: https://datasheet.ciiva.com/48480/typ-omz-125-48480108.pdf?src-supplier=Avnet; ComponentLink2Description: https://datasheet.ciiva.com/48480/typ-omz-125-48480108.pdf?src-supplier=Avnet; Stock 2: 4; Pricing 2: 1=1.99000, 50=1.66900, 100=1.27700, 500=1.25200, 1000=1.13183 (USD); Supplier 1: Mouser; Supplier 2: Digi-Key; Supplier Part Number 1: 693-3404.2330.11; Supplier Part Number 2: 486-6939-ND
footprint OMx 125 (OMx Fuses)
pins: 1, 2

## F_3404.2331.xx
designator F?, comment 3404.2331.xx
Fuse Chip Slow Blow Acting 5A 125V SMD Solder Pad 12 X 5.2mm Thermoplastic Bag CCC; Manufacturer: Schurter; Manufacturer Part Number: 3404.2331.22; Power Dissipation: 395mW; Fuse Type: Board Mount (Cartridge Style Excluded); Supplier 1: Digi-Key; RoHS: Yes; Category: Fuses; Pricing 1: 750=1.39600 (USD); Mount: Surface Mount,Holder; Case/Package: SMD/SMT; Number of Pins: 2; Weight: 0.016579oz; Contact Plating: Tin; Housing Material: Thermoplastic; Min Operating Temperature: -40°C; Max Operating Temperature: 85°C; Current Rating: 5A; Voltage Rating (AC): 125V; Voltage Rating (DC): 125V; Packaging: Tape and Reel; Package Quantity: 750; Max Voltage Rating (AC): 125V; Max Voltage Rating (DC): 125V; Voltage Rating: 125V; Series: OMZ 125; Length: 12mm; Width: 5.2mm; Height: 6mm; Depth: 5.2mm; Radiation Hardening: No; Approvals: CCC; RoHS Compliant: Yes; ComponentLink1URL: https://datasheet.ciiva.com/311/typ-omz-125-311332.pdf?src-supplier=Digi-Key; ComponentLink1Description: https://datasheet.ciiva.com/311/typ-omz-125-311332.pdf?src-supplier=Digi-Key; ComponentLink2URL: https://datasheet.ciiva.com/17403/typ-omz-125-17403900.pdf?src-supplier=Avnet+Europe; ComponentLink2Description: https://datasheet.ciiva.com/17403/typ-omz-125-17403900.pdf?src-supplier=Avnet+Europe; ComponentLink3URL: https://datasheet.ciiva.com/8265/typ-omz-125-8265605.pdf?src-supplier=Avnet; ComponentLink3Description: https://datasheet.ciiva.com/8265/typ-omz-125-8265605.pdf?src-supplier=Avnet; Supplier 2: Mouser; Supplier 3: Digi-Key; Stock 3: 50; Pricing 3: 1=1.99000, 50=1.66900, 100=1.27700, 500=1.25200, 1000=1.13183 (USD); Fuse Size: 12 X 5.2mm; ComponentLink4URL: https://datasheet.ciiva.com/17403/typ-omz-125-17403898.pdf?src-supplier=Avnet+Europe; ComponentLink4Description: https://datasheet.ciiva.com/17403/typ-omz-125-17403898.pdf?src-supplier=Avnet+Europe; ComponentLink5URL: https://datasheet.ciiva.com/311/typ-omz-125-311245.pdf?src-supplier=Digi-Key; ComponentLink5Description: https://datasheet.ciiva.com/311/typ-omz-125-311245.pdf?src-supplier=Digi-Key; ComponentLink6URL: https://datasheet.ciiva.com/8265/typ-omz-125-8265597.pdf?src-supplier=Avnet; ComponentLink6Description: https://datasheet.ciiva.com/8265/typ-omz-125-8265597.pdf?src-supplier=Avnet; Supplier Part Number 1: 3404.2331.22-ND; Supplier Part Number 2: 693-3404.2331.22; Supplier Part Number 3: 486-6938-ND
footprint OMx 125 (OMx Fuses)
pins: 1, 2

## F_MF-LSMF185/33X
designator F?, comment MF-LSMF185/33X
FUSE PTC RESET 1.85A 33V SMD; Manufacturer: Bourns; Manufacturer Part Number: MF-LSMF185/33X-2; Case/Package: 2920; ComponentLink1URL: https://datasheet.ciiva.com/16206/mflsmf-16206021.pdf; ComponentLink1Description: https://datasheet.ciiva.com/16206/mflsmf-16206021.pdf; ComponentLink2URL: https://datasheet.ciiva.com/23655/1480010-23655431.pdf; ComponentLink2Description: https://datasheet.ciiva.com/23655/1480010-23655431.pdf; ComponentLink3URL: https://datasheet.ciiva.com/4501/mflsmf-16789-4501041.pdf; ComponentLink3Description: https://datasheet.ciiva.com/4501/mflsmf-16789-4501041.pdf; ComponentLink4URL: https://datasheet.ciiva.com/1274/1727942-1274469.pdf; ComponentLink4Description: https://datasheet.ciiva.com/1274/1727942-1274469.pdf; ComponentLink5URL: https://datasheet.ciiva.com/3019/mflsmf-3019774.pdf; ComponentLink5Description: https://datasheet.ciiva.com/3019/mflsmf-3019774.pdf; ComponentLink6URL: https://datasheet.ciiva.com/326/mflsmf-326541.pdf; ComponentLink6Description: https://datasheet.ciiva.com/326/mflsmf-326541.pdf; ComponentLink7URL: https://datasheet.ciiva.com/30075/575mfmsmf-30075887.pdf; ComponentLink7Description: https://datasheet.ciiva.com/30075/575mfmsmf-30075887.pdf; ComponentLink8URL: https://datasheet.ciiva.com/3019/mflsmf-3019775.pdf; ComponentLink8Description: https://datasheet.ciiva.com/3019/mflsmf-3019775.pdf; ComponentLink9URL: https://datasheet.ciiva.com/326/mflsmf-326539.pdf; ComponentLink9Description: https://datasheet.ciiva.com/326/mflsmf-326539.pdf; ComponentLink10URL: https://datasheet.ciiva.com/22657/1727942-22657834.pdf; ComponentLink10Description: https://datasheet.ciiva.com/22657/1727942-22657834.pdf; ComponentLink11URL: https://datasheet.ciiva.com/326/mflsmf-326540.pdf; ComponentLink11Description: https://datasheet.ciiva.com/326/mflsmf-326540.pdf; ComponentLink12URL: https://datasheet.ciiva.com/48686/001055627-da-01-en-sich-ptc-res-mf-lsmf185-33x-2-1-85a33v-48686507.pdf; ComponentLink12Description: https://datasheet.ciiva.com/48686/001055627-da-01-en-sich-ptc-res-mf-lsmf185-33x-2-1-85a33v-48686507.pdf; Supplier 1: Digi-Key; Supplier 2: Mouser; Supplier 3: Farnell; Supplier Part Number 1: MF-LSMF185/33X-2CT-ND; Supplier Part Number 2: 652-MF-LSMF185/33X-2; Supplier Part Number 3: 2057922
footprint MF-LSMF185/33X
pins: 1, 2

## F_MF-NSMF020-2
designator F?, comment MF-NSMF020-2
FUSE RESETTABLE .20A HOLD SMD; Manufacturer: Bourns; Case/Package: 1206; ComponentLink1URL: https://datasheet.ciiva.com/27056/2020355-27056263.pdf; ComponentLink1Description: https://datasheet.ciiva.com/27056/2020355-27056263.pdf; ComponentLink2URL: https://datasheet.ciiva.com/3019/mfnsmf-3019634.pdf; ComponentLink2Description: https://datasheet.ciiva.com/3019/mfnsmf-3019634.pdf; ComponentLink3URL: https://datasheet.ciiva.com/3019/mfnsmf-3019635.pdf; ComponentLink3Description: https://datasheet.ciiva.com/3019/mfnsmf-3019635.pdf; ComponentLink4URL: https://datasheet.ciiva.com/22712/1738992-22712181.pdf; ComponentLink4Description: https://datasheet.ciiva.com/22712/1738992-22712181.pdf; ComponentLink5URL: https://datasheet.ciiva.com/46385/1738992-46385141.pdf; ComponentLink5Description: https://datasheet.ciiva.com/46385/1738992-46385141.pdf; ComponentLink6URL: https://datasheet.ciiva.com/30142/mfnsmf-30142502.pdf; ComponentLink6Description: https://datasheet.ciiva.com/30142/mfnsmf-30142502.pdf; ComponentLink7URL: https://datasheet.ciiva.com/28411/1738992-28411608.pdf; ComponentLink7Description: https://datasheet.ciiva.com/28411/1738992-28411608.pdf; ComponentLink8URL: https://datasheet.ciiva.com/326/mfnsmf-326476.pdf; ComponentLink8Description: https://datasheet.ciiva.com/326/mfnsmf-326476.pdf; ComponentLink9URL: https://datasheet.ciiva.com/326/mfnsmf-326477.pdf; ComponentLink9Description: https://datasheet.ciiva.com/326/mfnsmf-326477.pdf; ComponentLink10URL: https://datasheet.ciiva.com/4501/mfnsmf-48043-4501261.pdf; ComponentLink10Description: https://datasheet.ciiva.com/4501/mfnsmf-48043-4501261.pdf; ComponentLink11URL: https://datasheet.ciiva.com/326/mfnsmf-326478.pdf; ComponentLink11Description: https://datasheet.ciiva.com/326/mfnsmf-326478.pdf; ComponentLink12URL: https://datasheet.ciiva.com/16206/mfnsmf-16206078.pdf; ComponentLink12Description: https://datasheet.ciiva.com/16206/mfnsmf-16206078.pdf; ComponentLink13URL: https://datasheet.ciiva.com/8005/1-8005327.pdf; ComponentLink13Description: https://datasheet.ciiva.com/8005/1-8005327.pdf; ComponentLink14URL: https://datasheet.ciiva.com/18427/70153456-18427711.pdf; ComponentLink14Description: https://datasheet.ciiva.com/18427/70153456-18427711.pdf; ComponentLink15URL: https://datasheet.ciiva.com/48700/001055649-da-01-en-sich-ptc-reset-mf-nsmf020-2-0-2a-24v-48700198.pdf; ComponentLink15Description: https://datasheet.ciiva.com/48700/001055649-da-01-en-sich-ptc-reset-mf-nsmf020-2-0-2a-24v-48700198.pdf; Manufacturer Part Number: MF-NSMF020-2; Supplier 1: Digi-Key; Supplier 2: Mouser; Supplier 3: Farnell; Supplier Part Number 1: MF-NSMF020-2CT-ND; Supplier Part Number 2: 652-MF-NSMF020-2; Supplier Part Number 3: 1817286
footprint 1206_PTC
pins: 1, 2

## K_RTD14012
designator K?
Electromechanical Relay 12VDC 360Ohm 16A SPDT (29x12.7x15.7)mm THT Power Relay; Manufacturer: TE Connectivity; Manufacturer Part Number: RTD14012; Coil Voltage (DC): 12V; Coil Resistance: 360R; Coil Current: 33.3mA; Max Voltage Rating (AC): 400V; Coil Type: Non-Latching; Operate Time: 8ms; Coil Power: 400mW; Relay Type: General Purpose; Release Time: 6ms; Contact Voltage Rating (AC): 250V; Supplier 1: Digi-Key; RoHS: Yes; Category: Signal Relays; Stock 1: 7113; Pricing 1: 1=3.74000, 10=3.51000, 25=3.12000, 50=2.96400, 100=2.80800, 250=2.49600, 500=2.34000, 1000=2.18400, 5000=2.10600 (USD); Mount: Through Hole,PCB; Number of Pins: 8; Contact Material: Silver; Weight: 0.494oz; Min Operating Temperature: -40°C; Max Operating Temperature: 85°C; Throw Configuration: SPDT; Contact Current Rating: 16A; Termination: Plug; Packaging: Carton; Package Quantity: 500; Power Consumption: 400mW; Length: 29mm; Width: 12.7mm; Height: 15.7mm; Depth: 12.7mm; Lead Free: Lead Free; REACH SVHC: Unknown; ComponentLink1URL: https://datasheet.ciiva.com/20162/60-1245-20162736.pdf?src-supplier=Rapid+Electronics; ComponentLink1Description: https://datasheet.ciiva.com/20162/60-1245-20162736.pdf?src-supplier=Rapid+Electronics; ComponentLink2URL: https://datasheet.ciiva.com/23822/84449-23822032.pdf?src-supplier=Newark; ComponentLink2Description: https://datasheet.ciiva.com/23822/84449-23822032.pdf?src-supplier=Newark; ComponentLink3URL: https://datasheet.ciiva.com/7999/1717883-7999766.pdf?src-supplier=Element14; ComponentLink3Description: https://datasheet.ciiva.com/7999/1717883-7999766.pdf?src-supplier=Element14; ComponentLink4URL: https://datasheet.ciiva.com/2406/eng-ds-rt1-1014-2406778.pdf?src-supplier=Digi-Key; ComponentLink4Description: https://datasheet.ciiva.com/2406/eng-ds-rt1-1014-2406778.pdf?src-supplier=Digi-Key; ComponentLink5URL: https://datasheet.ciiva.com/24347/4496ddetrolleractionshowdocdociddatasheet7frt17f09107fpdf7fenglish-24347230.pdf?src-supplier=Onlinecomponents.com; ComponentLink5Description: https://datasheet.ciiva.com/24347/4496ddetrolleractionshowdocdociddatasheet7frt17f09107fpdf7fenglish-24347230.pdf?src-supplier=Onlinecomponents.com; Supplier Part Number 1: PB980-ND; Supplier 2: Mouser; Supplier 3: Farnell; Stock 3: 9339; Pricing 3: 1=2.44000, 10=2.28000, 25=1.93000, 50=1.88000, 100=1.82000 (GBP); Series: RT1, SCHRACK; Application(s): POWER; RoHS Compliant: Yes; Supplier Part Number 2: 655-RTD14012; Supplier Part Number 3: 1175016
footprint RTD14012
pins: 11, 12, 14, A1, A2

## L
designator L?
SMD  Inductor, generic
footprint 0402_L
footprint 0603_L
footprint 0805_L
pins: 1, 2

## L_74279265
designator L?, comment 74279265  (value not drawn)
SMD EMI Suppression Ferrite Bead WE-CBF, Z = 600 Ohm; Manufacturer: Würth; Manufacturer Part Number: 74279265; ComponentLink1Description: Manufacturer URL; ComponentLink1URL: http://www.we-online.com; ComponentLink2Description: Datasheet; ComponentLink2URL: http://www.we-online.de/katalog/media/pdf/74279265.pdf; Case/Package: 0603; ComponentLink3URL: https://datasheet.ciiva.com/1015/742792655-1015432.pdf; ComponentLink3Description: https://datasheet.ciiva.com/1015/742792655-1015432.pdf; ComponentLink4URL: https://datasheet.ciiva.com/14632/0900766b801ef1ad-14632841.pdf; ComponentLink4Description: https://datasheet.ciiva.com/14632/0900766b801ef1ad-14632841.pdf; ComponentLink5URL: https://datasheet.ciiva.com/4940/74279265-50879-4940490.pdf; ComponentLink5Description: https://datasheet.ciiva.com/4940/74279265-50879-4940490.pdf; ComponentLink6URL: https://datasheet.ciiva.com/23763/74279265-23763005.pdf; ComponentLink6Description: https://datasheet.ciiva.com/23763/74279265-23763005.pdf; ComponentLink7URL: https://datasheet.ciiva.com/1013/74279265-1013368.pdf; ComponentLink7Description: https://datasheet.ciiva.com/1013/74279265-1013368.pdf; ComponentLink8URL: https://datasheet.ciiva.com/11799/0900766b801ef1ad-11799650.pdf; ComponentLink8Description: https://datasheet.ciiva.com/11799/0900766b801ef1ad-11799650.pdf; ComponentLink9URL: https://datasheet.ciiva.com/1475/1696014-1475347.pdf; ComponentLink9Description: https://datasheet.ciiva.com/1475/1696014-1475347.pdf; ComponentLink10URL: https://datasheet.ciiva.com/22711/1696014-22711419.pdf; ComponentLink10Description: https://datasheet.ciiva.com/22711/1696014-22711419.pdf; ComponentLink11URL: https://datasheet.ciiva.com/48698/001087055-da-01-ml-we-cbf-smd-ferrit-74279265-de-en-48698359.pdf; ComponentLink11Description: https://datasheet.ciiva.com/48698/001087055-da-01-ml-we-cbf-smd-ferrit-74279265-de-en-48698359.pdf; Supplier 1: Digi-Key; Supplier 2: Mouser; Supplier 3: Farnell; Supplier Part Number 1: 732-1583-1-ND; Supplier Part Number 2: 710-74279265; Supplier Part Number 3: 1635691
footprint 0603_L
pins: 1, 2